# EAGLE library part GY-521 (library gy-521)
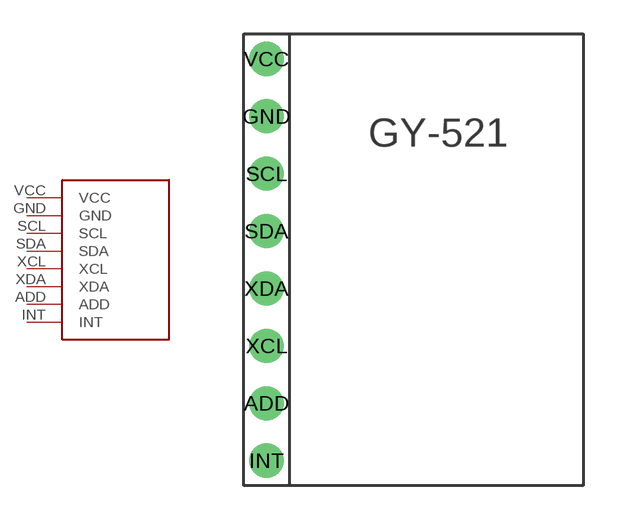
[diagram p0: symbol with the pads of GY-521; footprint GY-521]

Designator prefix -

## GY-521  [GY-521]
ADD  ADD
GND  GND
INT  INT
SCL  SCL
SDA  SDA
VCC  VCC
XCL  XCL
XDA  XDA

## Footprint GY-521 (pad centres in mm)
drill 1: ADD -7.5,-6.35; GND -7.5,6.35; INT -7.5,-8.89; SCL -7.5,3.81; SDA -7.5,1.27; VCC -7.5,8.89; XCL -7.5,-3.81; XDA -7.5,-1.27